# Altium schematic symbol library TPH9R00CQH,LQ.SchLib: 1 symbol
Pins are listed as number, name and electrical type; pins without a type are passive.

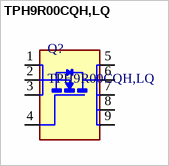
[diagram p0: symbol TPH9R00CQH,LQ]

## TPH9R00CQH,LQ
designator Q?
MOSFET U-MOSVIII-H 150V 64A 44nC MOSFET; Manufacturer: Toshiba; Vgs(max): 20V; Rds(on): 5.1m; Id(max): 66A; PN: TPH9R00CQH,LQ; Vds(max): 150V; Footprint: SOP-Advance-8; Package: SOP-Advance-8; Supplier 1: Mouser; Supplier Part Number 1: 757-TPH6R30ANLL1Q
footprint SOP-Advance-8 (Package for TPH6R30ANL,L1Q)
pins: 1 S, 2 S, 3 S, 4 G, 5 D, 6 D, 7 D, 8 D, 9 D